# Altium schematic symbol library CommonSymbols_V1.SchLib: 74 symbols
Pins are listed as number, name and electrical type; pins without a type are passive.

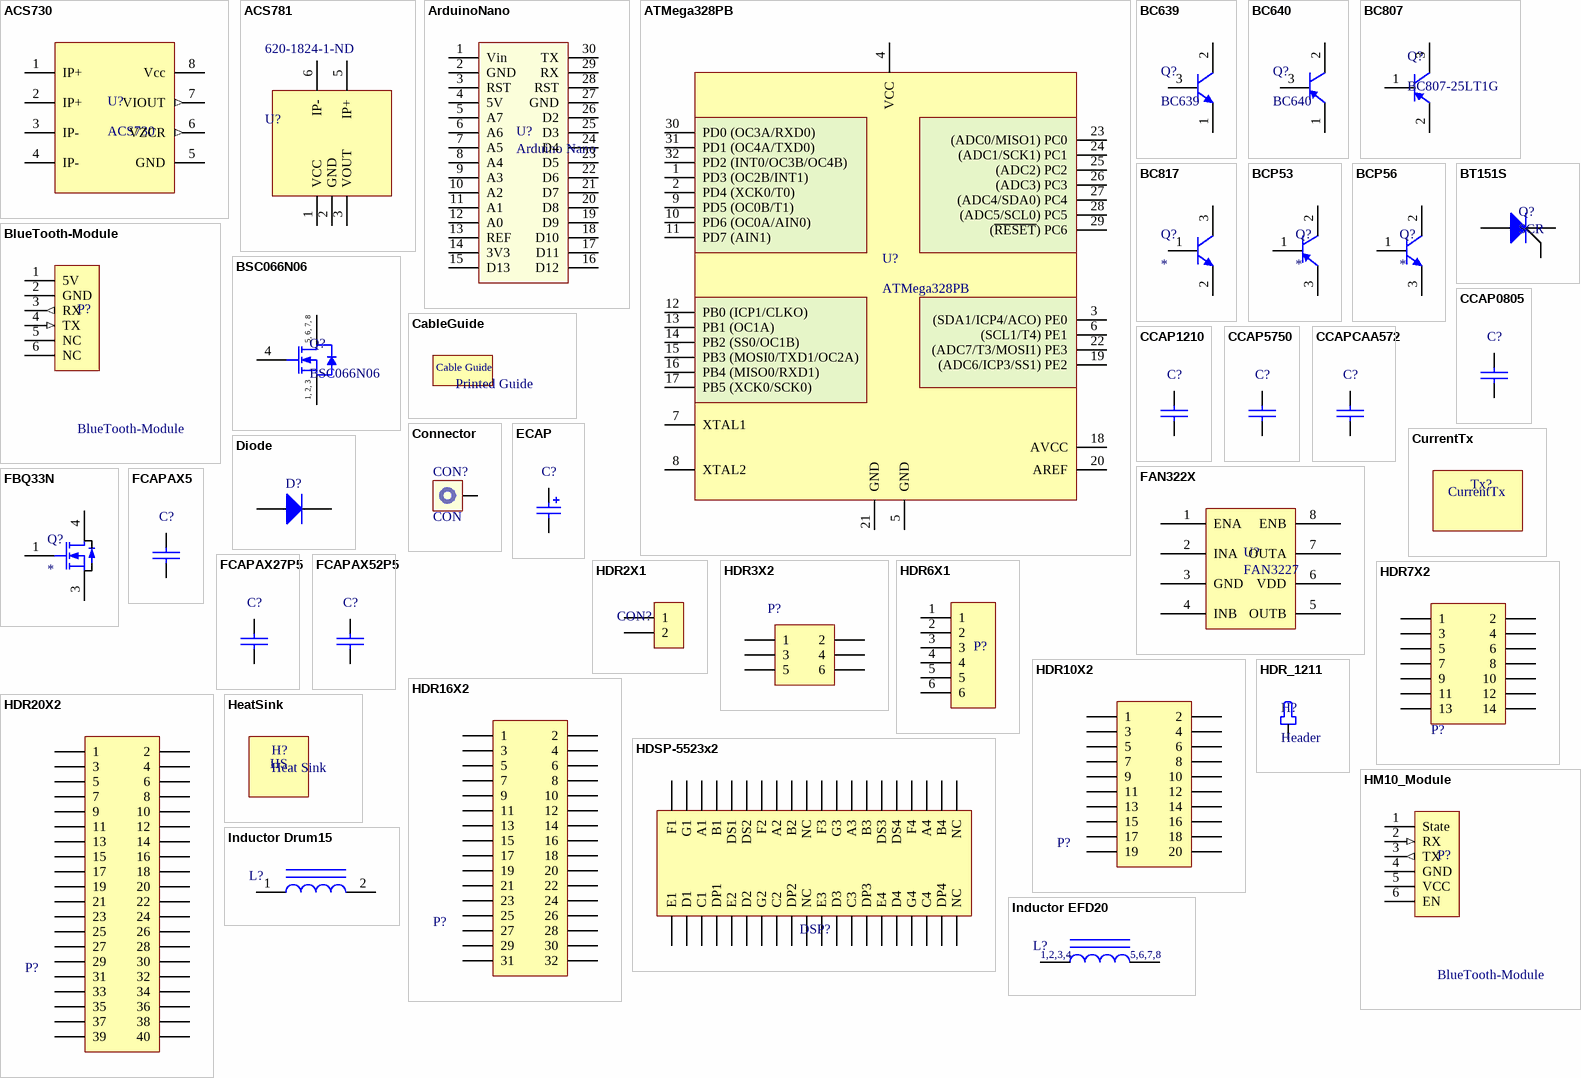
[diagram p0: symbols ACS730 to Inductor EFD20]

## ACS730
designator U?
Supplier 1: Digikey; Supplier Part Number 1: 620-1794-6-ND
footprint SOIC8
pins: 1 IP+, 2 IP+ (power), 3 IP- (power), 4 IP-, 5 GND (power), 6 VZCR (out), 7 VIOUT (out), 8 Vcc (power)

## ACS781
designator U?, comment Supplier Part Number 1: 620-1824-1-ND  (hidden comment: ACS781 Hall Sensor)
Supplier 1: Digi-Key
footprint ACS781
pins: 1 VCC, 2 GND, 3 VOUT, 5 IP+, 6 IP-

## ArduinoNano
designator U?, comment Arduino Nano
footprint ArduinoNano
footprint ArduinoNanoSMT
pins: 1 Vin, 2 GND, 3 RST, 4 5V, 5 A7, 6 A6, 7 A5, 8 A4, 9 A3, 10 A2, 11 A1, 12 A0, 13 REF, 14 3V3, 15 D13, 16 D12, 17 D11, 18 D10, 19 D9, 20 D8, 21 D7, 22 D6, 23 D5, 24 D4, 25 D3, 26 D2, 27 GND, 28 RST, 29 RX, 30 TX

## ATMega328PB
designator U?
IC MCU 8BIT 32KB FLASH 32TQFP; Supplier 1: Digi-Key; Supplier Part Number 1: ATMEGA328PB-AU-ND; Supplier 2: Digikey; Supplier Part Number 2: ATMEGA328PB-AU-ND
footprint TQFP32
pins: 1 PD3 (OC2B/INT1), 2 PD4 (XCK0/T0), 3 (SDA1/ICP4/ACO) PE0, 4 VCC, 5 GND, 6 (SCL1/T4) PE1, 7 XTAL1, 8 XTAL2, 9 PD5 (OC0B/T1), 10 PD6 (OC0A/AIN0), 11 PD7 (AIN1), 12 PB0 (ICP1/CLKO), 13 PB1 (OC1A), 14 PB2 (SS0/OC1B), 15 PB3 (MOSI0/TXD1/OC2A), 16 PB4 (MISO0/RXD1), 17 PB5 (XCK0/SCK0), 18 AVCC, 19 (ADC6/ICP3/SS1) PE2, 20 AREF, 21 GND, 22 (ADC7/T3/MOSI1) PE3, 23 (ADC0/MISO1) PC0, 24 (ADC1/SCK1) PC1, 25 (ADC2) PC2, 26 (ADC3) PC3, 27 (ADC4/SDA0) PC4, 28 (ADC5/SCL0) PC5, 29 (~{RESET}) PC6, 30 PD0 (OC3A/RXD0), 31 PD1 (OC4A/TXD0), 32 PD2 (INT0/OC3B/OC4B)

## BC639
designator Q?
BC639 NPN
footprint TO92S
pins: 1 E, 2 C, 3 B

## BC640
designator Q?
BC640 PNP
footprint TO92S
pins: 1 E, 2 C, 3 B

## BC807
designator Q?, comment BC807-25LT1G
General Purpose Transistor, PNP Silicon, 3-Pin SOT-23, Pb-Free, Tape and Reel; Manufacturer: On Semiconductor; IC Continuous (A): -0.5; fT Min (MHz): 100; PackageDescription: 3-Pin Small Outline Transistor, Body 2.92 x 1.3 mm, Pitch 0.95 mm; Polarity: PNP; ComponentLink2URL: http://www.onsemi.com/pub_link/Collateral/BC807-16LT1-D.PDF; PackageReference: SOT-23-3-318-08; ComponentLink2Description: Datasheet; ComponentLink1Description: Manufacturer URL; PartNumber: BC807-25LT1G; ComponentLink3URL: http://www.onsemi.cn/pub_link/Collateral/318-08.PDF; Packing: Tape and Reel; DatasheetVersion: Rev. 10; RoHS: TRUE; ComponentLink3Description: Package Specification; PackageVersion: Rev. AP, 11/2009; ComponentLink1URL: http://www.onsemi.com/; Mounting Technology: Surface Mount
footprint SOT23SM (SOT23 Medium Intensity)
pins: 1 B, 2 E, 3 C

## BC817
designator Q?
BC817 SMT NPN Transistor
footprint SOT23SM (SOT23 Medium Intensity)
pins: 1 B, 2 E, 3 C

## BCP53
designator Q?
PNP Trnasistor
footprint SOT223L (SOT223/SC73, 4-Leads, Body 6.5x3.5mm, Pitch 2.3mm, Lead Span 7mm, IPC Low Density)
pins: 1 B, 2 C, 3 E, 4 C

## BCP56
designator Q?
NPN Transistor
footprint SOT223L (SOT223/SC73, 4-Leads, Body 6.5x3.5mm, Pitch 2.3mm, Lead Span 7mm, IPC Low Density)
pins: 1 B, 2 C, 3 E, 4 C

## BlueTooth-Module
designator P?
Header, 6-Pin; LatestRevisionDate: 17-Jul-2002; LatestRevisionNote: Re-released for DXP Platform.; Publisher: Altium Limited
footprint HDR6X1_2P54 (Connector for BLE)
signal-integrity model Connector
footprint HDRBLE (Connector for BLE)
pins: 1 5V, 2 GND, 3 RX (out), 4 TX (in), 5 NC, 6 NC

## BSC066N06
designator Q?
Supplier 1: Digikey; Supplier Part Number 1: BSC066N06NSATMA1CT-ND
footprint TDSON
pins: 1 SOURCE, 2 SOURCE, 3 SOURCE, 4 GATE, 5 DRAIN, 6 DRAIN, 7 DRAIN, 8 DRAIN
text: 5, 6, 7, 8; 1, 2, 3

## BT151S
designator Q?, comment SCR
footprint DPAK (TO228P970-3N)
pins: 1, 3, 4

## CableGuide
designator G?, comment Printed Guide
3D Printed Guide
footprint CableGuide40L
footprint CableGuide40R
text: Cable Guide

## CCAP0805
designator C?, comment Capacitor 0805  (value not drawn)
CCAP0805
footprint C0805
pins: 1, 2

## CCAP1210
designator C?  (value not drawn)
footprint C1210
pins: 1, 2

## CCAP5750
designator C?  (value not drawn)
CCAP1210
footprint C5750 (C5750 footprint)
pins: 1, 2

## CCAPCAA572
designator C?  (value not drawn)
CAA572 ceramic caps
footprint CAA572 (Chip Capacitor, 2-Leads, Body 6.25x5.75mm, IPC Low Density)
pins: 1, 2

## Connector
designator CON?, comment CON
Term; Part Number: 74651194R; Rated Current: 85 A; Published Date: Jan 2017; Publisher: Wurth Elektronik; Size: M4, thread 5mm; Packaging: Tape and Reel
footprint CON_M3
pins: 1

## CurrentTx
designator Tx?, comment Current Tx  (value not drawn)
footprint CurrentTx

## Diode
designator D?
Diode
footprint SOD223
footprint DAX4
footprint C1210
footprint TO277 (PowerDI Package)
footprint SMA (Molded Diode, 2-Leads, Body 5.20x2.65mm, IPC Low Density)
pins: 1, 2

## ECAP
designator C?  (value not drawn)
footprint CR05
footprint CR015
footprint CR075
pins: 1, 2

## FAN322X
designator U?, comment FAN3227
FAN322X FET Driver
footprint SOIC8
pins: 1 ENA, 2 INA, 3 GND, 4 INB, 5 OUTB, 6 VDD, 7 OUTA, 8 ENB

## FBQ33N
designator Q?
N Type MOSFET
footprint D2PAK (D2-PAK, 3-Pads, Body 7.95x8.71mm (max), IPC Low Density)
pins: 1 G, 3, 4 D

## FCAPAX5
designator C?, comment Film Cap  (value not drawn)
Film Cap Ax5
footprint CB05
pins: 1, 2

## FCAPAX27P5
designator C?, comment Film Cap  (value not drawn)
Film Cap Axial 27.5mm pitch
footprint CB27P5
pins: 1, 2

## FCAPAX52P5
designator C?, comment Film Cap  (value not drawn)
Film Cap Axial 52.5mm pitch
footprint CB52P5
pins: 1, 2

## HDR2X1
designator CON?, comment Header 2X1  (value not drawn)
footprint HDR2X1_5
footprint HDR2X1_2P54 (Polarised Header 2 way)
pins: 1, 2

## HDR3X2
designator P?
Header, 3-Pin, Dual row
footprint HDR2X3_2P54 (IDC 3X2 Way 2.54 pitch)
footprint HDR2X3_2P54Jumper (IDC 3X2 Way 2.54 pitch)
pins: 1, 2, 3, 4, 5, 6

## HDR6X1
designator P?, comment Header 6X1  (value not drawn)
Header, 6-Pin; LatestRevisionDate: 17-Jul-2002; LatestRevisionNote: Re-released for DXP Platform.; Publisher: Altium Limited
signal-integrity model Connector
footprint HDR6X1_2P54 (Connector for BLE)
pins: 1, 2, 3, 4, 5, 6

## HDR7X2
designator P?
Header, 7-Pin, Dual row
footprint HDR2X7_2P54 (IDC 14 pin 2.54 pitch)
pins: 1, 2, 3, 4, 5, 6, 7, 8, 9, 10, 11, 12, 13, 14

## HDR10X2
designator P?  (value not drawn)
Header, 10-Pin, Dual row
footprint HDR10X2_2P54
pins: 1, 2, 3, 4, 5, 6, 7, 8, 9, 10, 11, 12, 13, 14, 15, 16, 17, 18, 19, 20

## HDR16X2
designator P?
Header, 16-Pin, Dual row
footprint HDR16X2_2P54
pins: 1, 2, 3, 4, 5, 6, 7, 8, 9, 10, 11, 12, 13, 14, 15, 16, 17, 18, 19, 20, 21, 22, 23, 24, 25, 26, 27, 28, 29, 30, 31, 32

## HDR20X2
designator P?, comment 20x2 Header  (value not drawn)
Header, 20-Pin, Dual row
footprint HDR20X2_2P54
pins: 1, 2, 3, 4, 5, 6, 7, 8, 9, 10, 11, 12, 13, 14, 15, 16, 17, 18, 19, 20, 21, 22, 23, 24, 25, 26, 27, 28, 29, 30, 31, 32, 33, 34, 35, 36, 37, 38, 39, 40

## HDR_1211
designator H?, comment Header
footprint HDR_1211
pins: 1

## HDSP-5523x2
designator DSP?, comment 7-Segment Display  (value not drawn)
footprint DIP40 (DIP, 40-Leads, Row Spacing 15.24mm, Pitch 2.54mm, Body 51.8x13.5mm)
pins: 1 E1, 2 D1, 3 C1, 4 DP1, 5 E2, 6 D2, 7 G2, 8 C2, 9 DP2, 10 NC, 11 E3, 12 D3, 13 C3, 14 DP3, 15 E4, 16 D4, 17 G4, 18 C4, 19 DP4, 20 NC, 21 NC, 22 B4, 23 A4, 24 F4, 25 DS4, 26 DS3, 27 B3, 28 A3, 29 G3, 30 F3, 31 NC, 32 B2, 33 A2, 34 F2, 35 DS2, 36 DS1, 37 B1, 38 A1, 39 G1, 40 F1

## HeatSink
designator H?, comment Heat Sink
text: HS

## HM10_Module
designator P?, comment BlueTooth-Module
Header, 6-Pin; LatestRevisionDate: 17-Jul-2002; LatestRevisionNote: Re-released for DXP Platform.; Publisher: Altium Limited
signal-integrity model Connector
footprint HDRBLE (Connector for BLE)
footprint HDR6X1_2P54SMT
pins: 1 State, 2 RX (in), 3 TX (out), 4 GND (power), 5 VCC (power), 6 EN

## Inductor Drum15
designator L?, comment Inductor  (value not drawn)
Inductor with core
footprint DRUM14X15
pins: 1, 2

## Inductor EFD20
designator L?, comment Inductor  (value not drawn)
Inductor with core
footprint EFD20
pins: 1, 2, 3, 4, 5, 6, 7, 8
text: 1,2,3,4; 5,6,7,8

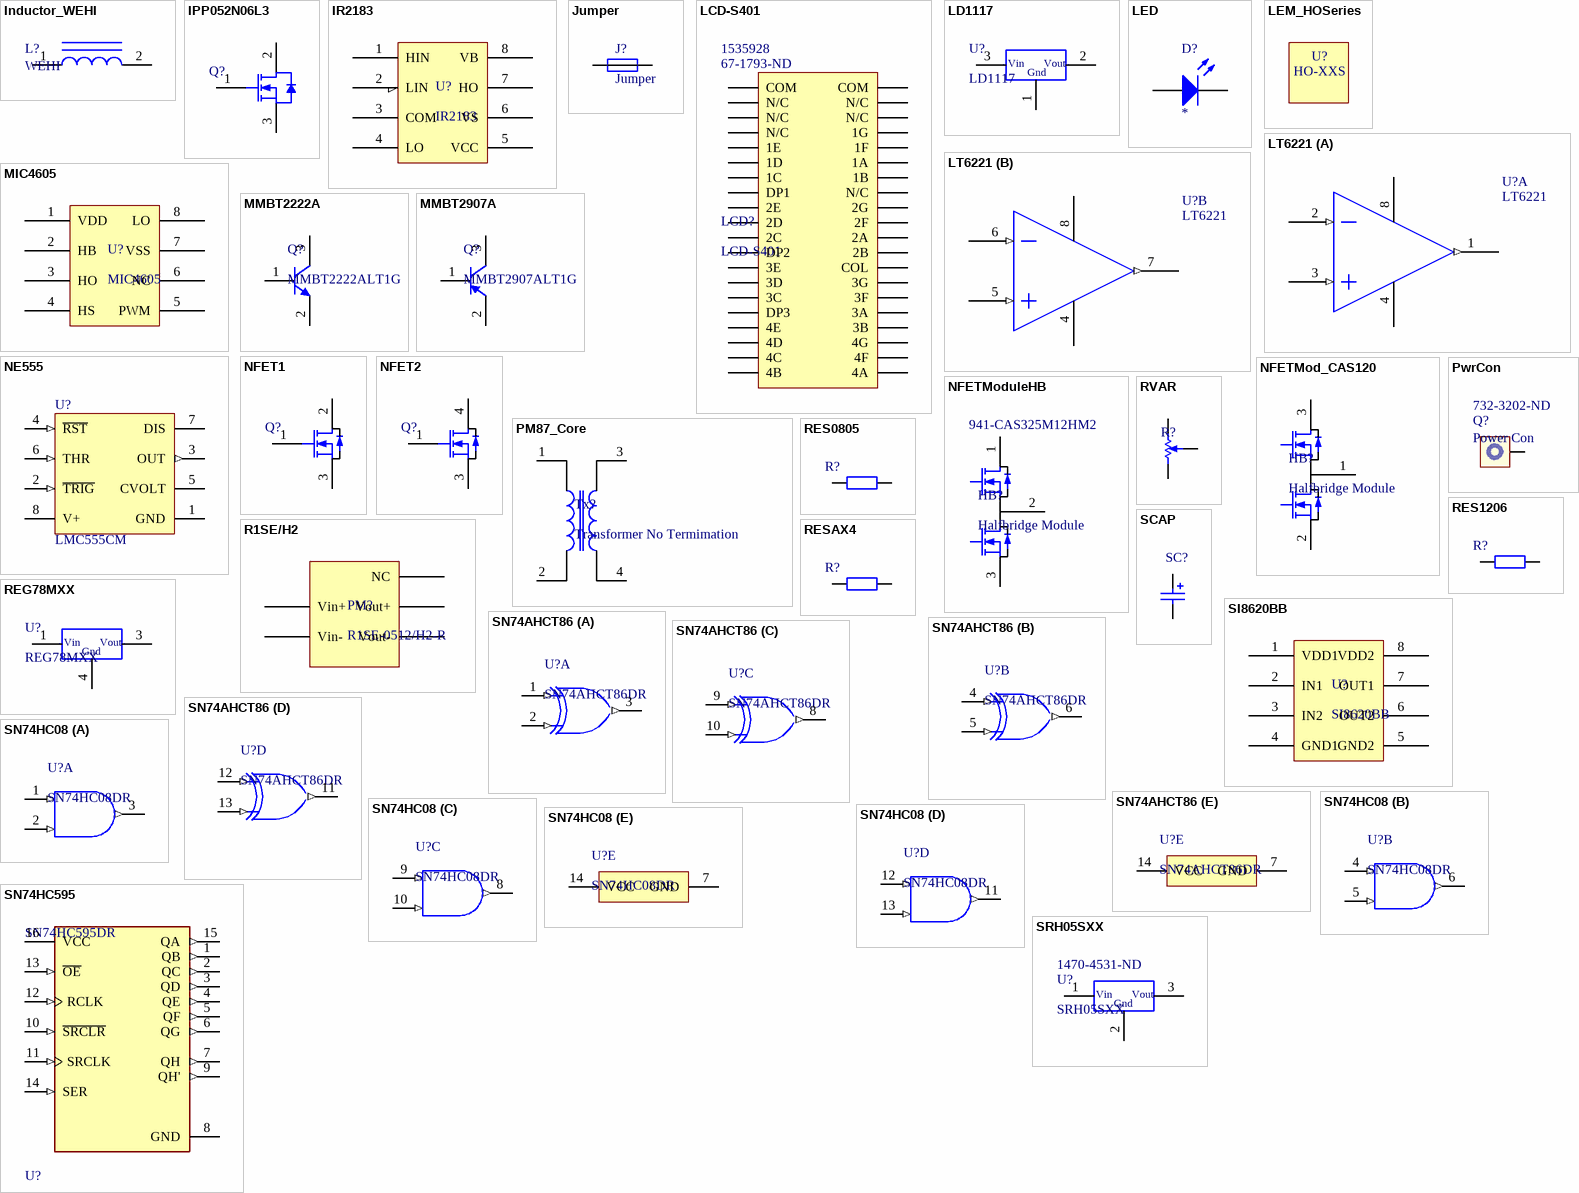
[diagram p1: symbols Inductor_WEHI to SRH05SXX]

## Inductor_WEHI
designator L?, comment WEHI
WE High Current Inductor
footprint WEHI_25x28 (Wire Wound Inductor, 2-Leads, Body 25.50x28.50mm, IPC Low Density)
pins: 1, 2

## IPP052N06L3
designator Q?
N-Channel OptiMOS 3 Power-Transistor, 60 V VDS, 80 A ID, -55 to 175 degC, PG-TO220-3-1, Tube, Green; Manufacturer: Infineon; PartNumber: IPP052N06L3 G; Green: TRUE; ID (max): 80 A; IDpuls (max): 320 A; Polarity: N; Ptot (max): 115 W; QG: 37 nC; RDS (on) (max): 5 mOhm; RDS (on) (max) (@4.5V): 8.3 mOhm; Rth: 1.3 K/W; RthJA (max): 62 K/W; VDS (max): 60 V; VGS(th) (max): 2.2 V; VGS(th) (min): 1.2 V; DatasheetVersion: Rev. 2.4; PackageVersion: Rev. 05, 08/2007; PackageReference: PG-TO220-3-1; PackageDescription: 3-Pin Plastic (Green) Transistor Single Outline Package, 10.03 x 8.98 mm Body, 2.54 mm Pitch; Supplier 1: Mouser; Supplier Part Number 1: 726-IPP052N06L3G; Supplier 2: Digi-Key; Supplier Part Number 2: IPP052N06L3 G-ND; Halogen-free: TRUE; Packing: Tube; RthJC (max): 1.3 K/W; Mounting Technology: Through Hole; ComponentLink1Description: Manufacturer URL; ComponentLink1URL: http://www.infineon.com/; ComponentLink2Description: Datasheet; ComponentLink2URL: http://www.infineon.com/dgdl/IPP_B052N06L3_Rev2.4.pdf?folderId=db3a304313b8b5a60113cee8763b02d7&fileId=db3a30432313ff5e0123a32d97c125b6; ComponentLink3Description: Package Specification; ComponentLink3URL: http://www.infineon.com/dgdl/IPP028N08N3_Rev1%5B1%5D.0.pdf?folderId=db3a304313b8b5a60113cee8763b02d7&fileId=db3a30432313ff5e0123a3c08e7326b5
footprint TO220VH (FM, 3-Leads, Body 10.03x8.98mm, Pitch 2.54mm)
pins: 1 GATE, 2 DRAIN, 3 SOURCE

## IR2183
designator U?
IC MOSFET DVR 600V HALF BRDG; Supplier 1: Digi-Key; Supplier Part Number 1: 1611-MIC4605-2YM-T5CT-ND; Supplier 2: Digikey; Supplier Part Number 2: 576-4473-6-ND
footprint SOIC8
pins: 1 HIN, 2 LIN, 3 COM, 4 LO, 5 VCC, 6 VS, 7 HO, 8 VB

## Jumper
designator J?
footprint J1010
pins: 1, 2

## LCD-S401
designator LCD?  Supplier Part Number 1: 67-1793-ND  Supplier Part Number 2: 1535928
Supplier 1: Digi-Key; Supplier 2: Farnell
footprint LCD-S401
pins: 1 COM, 2 N/C, 3 N/C, 4 N/C, 5 1E, 6 1D, 7 1C, 8 DP1, 9 2E, 10 2D, 11 2C, 12 DP2, 13 3E, 14 3D, 15 3C, 16 DP3, 17 4E, 18 4D, 19 4C, 20 4B, 21 4A, 22 4F, 23 4G, 24 3B, 25 3A, 26 3F, 27 3G, 28 COL, 29 2B, 30 2A, 31 2F, 32 2G, 33 N/C, 34 1B, 35 1A, 36 1F, 37 1G, 38 N/C, 39 N/C, 40 COM

## LD1117
designator U?
LD1117 Regulator
footprint SOT223L (SOT223/SC73, 4-Leads, Body 6.5x3.5mm, Pitch 2.3mm, Lead Span 7mm, IPC Low Density)
pins: 1 Gnd, 2 Vout, 3 Vin

## LED
designator D?
LED
footprint R0805
footprint LEDTH (LED through hole)
pins: 1 A, 2 K

## LEM_HOSeries
designator U?, comment LEM HOs  (value not drawn)
LEM board mount current sensor
footprint LEM_HO
footprint LEM_HO_Mod
text: HO-XXS

## LT6221
designator U?
IC OPAMP LT6221 DUAL SM; Manufactuer: Linear Technology; Manufacturer-PN: LT6221CS8#TRPBF; UoA Stock#: OPA000102; Assembly Method: Surface Mount; Item Type: Item; Path: ece/ts/Lists/Stock Inventory; Value: LT6221; Size/Package: S8; Supplier1: Arrow; Supplier1-PN: LT6221CS8#TRPBF; Supplier2: Digikey; Supplier2-PN: LT6221CS8#PBF-ND; Category: OpAmp; Status: Active; Supplier 1: Digikey; Supplier Part Number 1: LT6221CS8#PBF-ND
footprint SOIC8
pins on every part: 4 Vs(-) (power), 8 Vs(-) (power)
part A pins: 1 OUT1 (out), 2 IN1(-) (in), 3 IN1(+) (in)
part B pins: 5 IN2(+) (in), 6 IN2(-) (in), 7 OUT2 (out)

## MIC4605
designator U?
IC MOSFET DVR 85V HALF BRDG; Supplier 1: Digi-Key; Supplier Part Number 1: 1611-MIC4605-2YM-T5CT-ND; Supplier 2: Digikey; Supplier Part Number 2: 576-4473-6-ND
footprint SOIC8
pins: 1 VDD, 2 HB, 3 HO, 4 HS, 5 PWM, 6 NC, 7 VSS, 8 LO

## MMBT2222A
designator Q?, comment MMBT2222ALT1G
General Purpose Transistor, NPN Silicon, 3-Pin SOT-23, Pb-Free, Tape and Reel; Manufacturer: On Semiconductor; fT Min (MHz): 300; IC Continuous (A): 0.6; ComponentLink3URL: http://www.onsemi.cn/pub_link/Collateral/318-08.PDF; PartNumber: MMBT2222ALT1G; RoHS: TRUE; ComponentLink1URL: http://www.onsemi.com/; ComponentLink3Description: Package Specification; ComponentLink2Description: Datasheet; Mounting Technology: Surface Mount; Packing: Tape and Reel; PackageDescription: 3-Pin Small Outline Transistor, Body 2.92 x 1.3 mm, Pitch 0.95 mm; DatasheetVersion: Rev. 10; PackageReference: SOT-23-3-318-08; ComponentLink2URL: http://www.onsemi.cn/pub_link/Collateral/MMBT2222LT1-D.PDF; Polarity: NPN; PackageVersion: Rev. AP, 11/2009; ComponentLink1Description: Manufacturer URL
footprint SOT23SM (SOT23 Medium Intensity)
pins: 1 B, 2 E, 3 C

## MMBT2907A
designator Q?, comment MMBT2907ALT1G
General Purpose Transistor, PNP Silicon, 3-Pin SOT-23, Pb-Free, Tape and Reel; Manufacturer: On Semiconductor; fT Min (MHz): 200; IC Continuous (A): -0.6; Mounting Technology: Surface Mount; DatasheetVersion: Rev. 13; PackageReference: SOT-23-3-318-08; PackageDescription: 3-Pin Small Outline Transistor, Body 2.92 x 1.3 mm, Pitch 0.95 mm; ComponentLink1URL: http://www.onsemi.com/; ComponentLink1Description: Manufacturer URL; Polarity: PNP; ComponentLink3Description: Package Specification; Packing: Tape and Reel; RoHS: TRUE; PackageVersion: Rev. AP, 11/2009; ComponentLink2Description: Datasheet; ComponentLink3URL: http://www.onsemi.cn/pub_link/Collateral/318-08.PDF; PartNumber: MMBT2907ALT1G; ComponentLink2URL: http://www.onsemi.cn/pub_link/Collateral/MMBT2907ALT1-D.PDF
footprint SOT23SM (SOT23 Medium Intensity)
pins: 1 B, 2 E, 3 C

## NE555
designator U?, comment LMC555CM
CMOS Timer, 8-pin Narrow SOIC, Pb-Free; Manufacturer: Texas Instruments; PackageTopMarking: NSZXTT*LMC*555CM; PowerWise: N; CompType: Analog IC; RoHS: Y; ComponentLink1Description: Datasheet URL; ComponentLink1URL: http://www.ti.com/general/docs/lit/getliterature.tsp?genericPartNumber=LMC555&fileType=pdf; Code_JEDEC: MS-012-AA; PackageDescription: SOIC Narrow, 4.9 x 3.9 x 1.45mm, 8 Lead, 1.27mm Pitch; Code_IPC: SOIC127P600-8; PinCount: 8; PackageReference: D0008A
footprint SOIC8
pins: 1 GND (power), 2 ~{TRIG} (in), 3 OUT (out), 4 ~{RST} (in), 5 CVOLT, 6 THR (in), 7 DIS (oc), 8 V+ (power)

## NFET1
designator Q?, comment MOSFET  (value not drawn)
NFET TO220
footprint TO220H
pins: 1 G, 2 D, 3 S

## NFET2
designator Q?, comment MOSFET  (value not drawn)
NFET D2PAK
footprint D2PAK (D2-PAK, 3-Pads, Body 7.95x8.71mm (max), IPC Low Density)
pins: 1 G, 3 S, 4 D

## NFETMod_CAS120
designator HB?, comment Halfbridge Module
Supplier 1: Mouser; Supplier 2: Digi-Key; Supplier Part Number 1: 941-CAS120M12BM2; Supplier Part Number 2: CAS120M12BM2-ND
footprint CAS120M12BM2
footprint CAS120M12BM2_Mod
pins: 1 D, 2 S, 3 G

## NFETModuleHB
designator HB?, comment Halfbridge Module  Supplier Part Number 1: 941-CAS325M12HM2
Supplier 1: Mouser
footprint CAS325M12HM2
pins: 1 G, 2 D, 3 S

## PM87_Core
designator Tx?, comment Transformer No Termimation
footprint PM87/70
footprint PM87/70/Term
pins: 1, 2, 3, 4

## PwrCon
designator Q?, comment Power Con  Supplier Part Number 1: 732-3202-ND
Supplier 1: Digi-Key
footprint WE7460305_HAL (WP-BUTR Bushes with two Rows Pin-Plate, M5, blind thr 6mm)
footprint M5_Pad
pins: 1

## R1SE/H2
designator PM?, comment R1SE-0512/H2-R
Supplier 1: Digikey; Supplier Part Number 1: 945-2273-1-ND
footprint R1SE
pins: 1 Vin+, 2 Vin-, 4 Vout-, 5 Vout+, 8 NC

## REG78MXX
designator U?
78M Series Linear Regulators
footprint TO252 (D-PAK, 4-Leads, Body 6.1x6.5mm, Pitch 2.28mm, Lead Span 9.7mm, IPC Low Density)
footprint TO220_Reg (FM, 3-Leads, Body 10.03x8.98mm, Pitch 2.54mm)
pins: 1 Vin, 3 Vout, 4 Gnd

## RES0805
designator R?, comment Resistor 0805  (value not drawn)
RES0805
footprint R0805
pins: 1, 2

## RES1206
designator R?, comment Resistor 1206  (value not drawn)
RES1206
footprint R1206 (Chip Resistor, 2-Leads, Body 3.20x1.60mm, IPC Low Density)
pins: 1, 2

## RESAX4
designator R?, comment Resistor  (value not drawn)
Axial Resistor
footprint RAX4
pins: 1, 2

## RVAR
designator R?  (value not drawn)
Variable Res
footprint RVARM
pins: 1, 2, W

## SCAP
designator SC?, comment Super Cap  (value not drawn)
footprint CR035
pins: 1, 2

## SI8620BB
designator U?
Supplier 1: Digikey; Supplier Part Number 1: 336-2567-ND
footprint SOIC8
pins: 1 VDD1, 2 IN1, 3 IN2, 4 GND1, 5 GND2, 6 OUT2, 7 OUT1, 8 VDD2

## SN74AHCT86
designator U?, comment SN74AHCT86DR
Quadruple 2-Input Exclusive-OR Gates, D0014A, LARGE T&R; Manufacturer: Texas Instruments; tpd @ Nom Voltage(Max)(ns): 10; Schmitt Trigger: No; Output Type: CMOS; Rating: Catalog; Voltage(Nom)(V): 5; VCC(Max)(V): 5.5; Technology Family: AHCT; Input Type: TTL; Bits(#): 4; ICC @ Nom Voltage(Max)(mA): 0.02; Output Drive (IOL/IOH)(Max)(mA): 8/-8; VCC(Min)(V): 4.5; F @ Nom Voltage(Max)(Mhz): 70; DatasheetVersion: SCLS250N; Operating Temperature Range(C): -40 to 125,-40 to 85; Generic Part Number: SN74AHCT86; PackageReference: D0014A
footprint SOIC14 (SOIC, 14-Leads, Body 8.75x4mm, Pitch 1.27mm, IPC Low Density)
part A pins: 1 1A (in), 2 1B (in), 3 1Y (out)
part B pins: 4 2A (in), 5 2B (in), 6 2Y (out)
part C pins: 8 3Y (out), 9 3A (in), 10 3B (in)
part D pins: 11 4Y (out), 12 4A (in), 13 4B (in)
part E pins: 7 GND (power), 14 VCC (power)

## SN74HC08
designator U?, comment SN74HC08DR
Quadruple 2-Input Positive-AND Gates, D0014A, LARGE T&R; Manufacturer: Texas Instruments; Output Type: CMOS; Technology Family: HC; F @ Nom Voltage(Max)(Mhz): 70; Rating: Catalog; Voltage(Nom)(V): 5; Schmitt Trigger: No; VCC(Min)(V): 2; ICC @ Nom Voltage(Max)(mA): 0.02; VCC(Max)(V): 6; Bits(#): 4; tpd @ Nom Voltage(Max)(ns): 28; DatasheetVersion: SCLS081F; Generic Part Number: SN74HC08; Input Type: CMOS; Operating Temperature Range(C): -40 to 85; PackageReference: D0014A
footprint SOIC14 (SOIC, 14-Leads, Body 8.75x4mm, Pitch 1.27mm, IPC Low Density)
part A pins: 1 1A (in), 2 1B (in), 3 1Y (out)
part B pins: 4 2A (in), 5 2B (in), 6 2Y (out)
part C pins: 8 3Y (out), 9 3A (in), 10 3B (in)
part D pins: 11 4Y (out), 12 4A (in), 13 4B (in)
part E pins: 7 GND (power), 14 VCC (power)

## SN74HC595
designator U?, comment SN74HC595DR
IC 8BIT SHIFT REG 3ST-OUT 16SOIC; Manufacturer: Texas Instruments; Max Supply Voltage: 6V; Nominal Supply Current: 80uA; Number Of Circuits: 1; Max Junction Temp: +150°C; Propagation Delay: 43ns; Frequency: 29MHz; Min Supply Voltage: 2V; Standoff Height: 0.1mm; Number Of Outputs: 9; Height: 1.75mm; Automotive: No; Device Class L1: Integrated Circuits (ICs); ComponentLink2Description: Datasheet; Ambient Temperature Range Low: -40°C; Ambient Temperature Range High: +85°C; Digikey Description: IC 8BIT SHIFT REG 3ST-OUT 16SOIC; ComponentLink2URL: http://www.ti.com/lit/ds/symlink/sn74hc595.pdf; Package: D0016A; Lead Free: Yes; Manufacturer Part Number: SN74HC595DR; Device Class L3: Shift Registers; Category: IC; Number Of Inputs: 1; Octopart: https://octopart.com/sn74hc595dr-texas+instruments-500634; Ipc Land Pattern Name: SOIC127P600X175-16; Device Class L2: Logic ICs; Temperature Range Low: -40°C; RoHS: TRUE; Temperature: -40°C to +85°C; Temperature Range High: +85°C; Mouser Description: Counter Shift Registers 8bit Shift
footprint SOIC16
pins: 1 QB (out), 2 QC (out), 3 QD (out), 4 QE (out), 5 QF (out), 6 QG (out), 7 QH (out), 8 GND (power), 9 QH' (out), 10 ~{SRCLR} (in), 11 SRCLK (in), 12 RCLK (in), 13 ~{OE} (in), 14 SER (in), 15 QA (out), 16 VCC (power)

## SRH05SXX
designator U?  Supplier Part Number 1: 1470-4531-ND
SRH05 Series Wing Input Range Regulators; Supplier 1: Digi-Key
footprint SRH05
pins: 1 Vin, 2 Gnd, 3 Vout

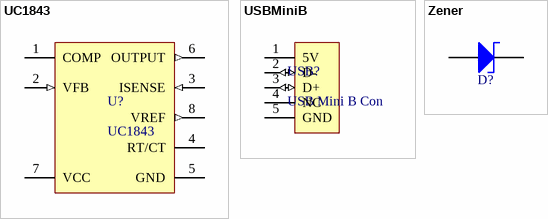
[diagram p2: symbols UC1843 to Zener]

## UC1843
designator U?
UC1843 PWM Controller; Supplier 1: Digikey; Supplier Part Number 1: 296-18182-1-ND
footprint SOIC8
footprint DIP8
pins: 1 COMP, 2 VFB (in), 3 ISENSE (in), 4 RT/CT, 5 GND (power), 6 OUTPUT (out), 7 VCC (power), 8 VREF (out)

## USBMiniB
designator USB?, comment USB Mini B Con
Supplier 1: Digi-Key; Supplier Part Number 1: 102-4004-1-ND
footprint USB_UJ2MAB
pins: 1 5V, 2 D- (io), 3 D+ (io), 4 NC, 5 GND

## Zener
designator D?
Zener Diode
footprint SOD123 (SODFL, 2-Leads, Body 1.60x3.50mm, IPC Low Density)
pins: 1 A, 2 K